# Altium footprint library GX12-5.PcbLib: 1 footprints
Each footprint in its own frame and in the unit in brackets; x right, y up, seen from the top. Pads: shape width x height; smd on the part's side, far side on the other; paste and mask are expansions set on the pad; w line width, h text height; cw(c..) or ccw(c..) is an arc to the next point about the centre after c.
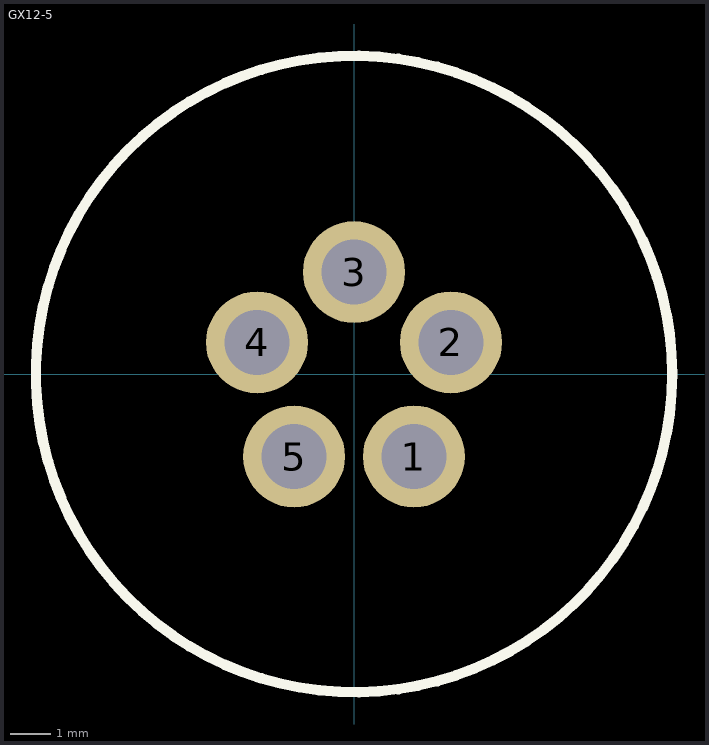
[diagram p0: the footprint, top view; thin cyan lines are the x and y axes]

## GX12-5 [mm]
pads (5):
  round 2.5 hole 1.6: 1(1.469,-2.023) 2(2.378,0.773) 3(0,2.5) 4(-2.378,0.773) 5(-1.469,-2.023)
Top Overlay:
  circle w0.254: c0,0 r7.8